# Altium schematic symbol library NMOS-2.Schlib: 1 symbol
Pins are listed as number, name and electrical type; pins without a type are passive.

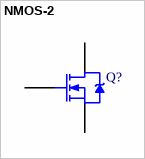
[diagram p0: symbol NMOS-2]

## NMOS-2
designator Q?
N-Channel Power MOSFET
pins: 1 G, 2 D, 3 S